# Altium footprint library Sangjian_Pcb.PcbLib: 434 footprints (part 24 of 28)
Each footprint in its own frame and in the unit in brackets; x right, y up, seen from the top. Pads: shape width x height; smd on the part's side, far side on the other; paste and mask are expansions set on the pad; w line width, h text height; cw(c..) or ccw(c..) is an arc to the next point about the centre after c.
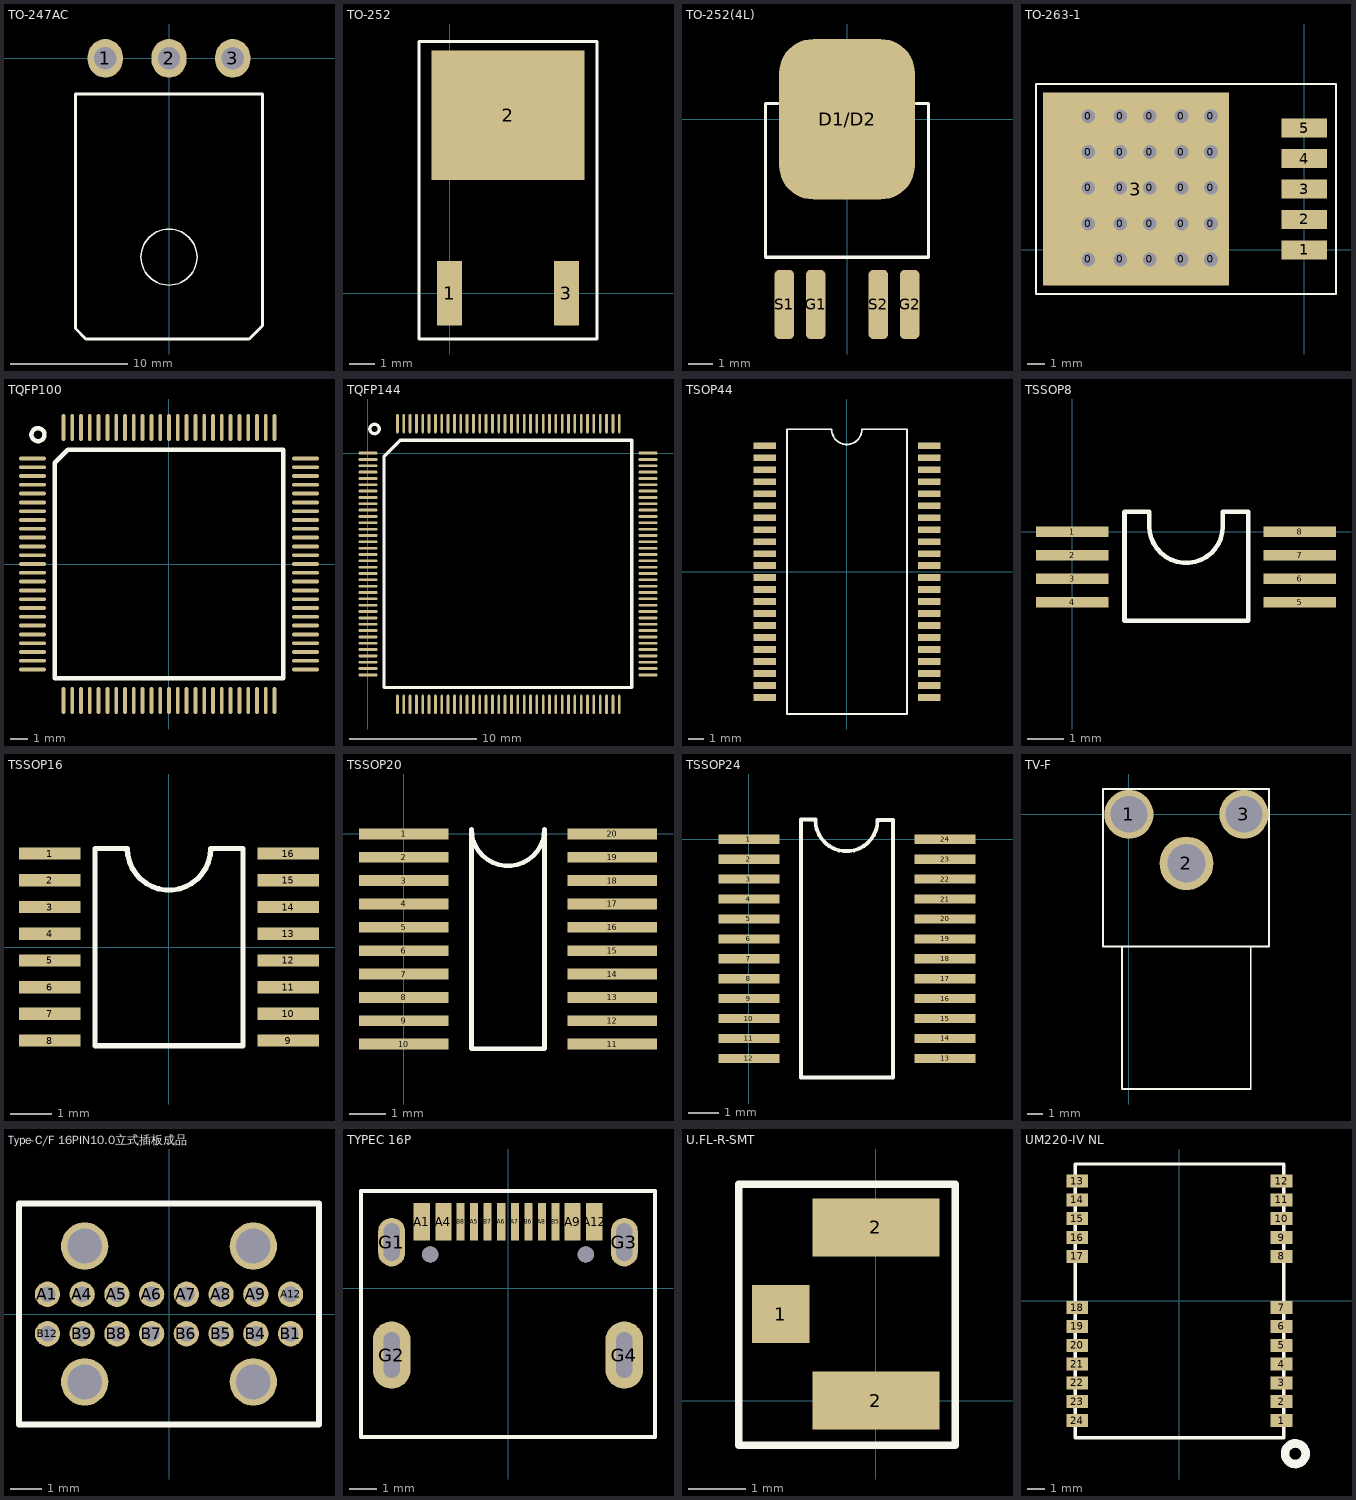
[diagram p23: the footprints below, top view; thin cyan lines are the x and y axes]

## TO-247AC [mm]
pads (3):
  oval 3x3.3 hole 1.9: 1(-5.45,0) 2(0,0) 3(5.45,0)
Top Overlay:
  circle w0.127: c0,-17 r2.396
  lines w0.254: 6.859,-24.002 8,-22.861 8,-13.716 ; 6.859,-24 -7.112,-24 -8,-23.112 -8,-16.002 -8,-3.048 8,-3.048 8,-13.843

## TO-252 [mm]
pads (3):
  rect 1x2.54 smd: 1(0,0) 3(4.6,0)
  rect 6x5.08 smd: 2(2.3,7)
Top Overlay:
  lines w0.127: -1.2,-1.8 -1.2,9.906 5.8,9.906 5.8,-1.8 -1.2,-1.8

## TO-252(4L) [mm]
pads (5):
  rrect50% 5.5x6.5 smd: D1/D2(0,0)
  rrect50% 0.8x2.8 smd: G1(-1.27,-7.5) G2(2.54,-7.5) S1(-2.54,-7.5) S2(1.27,-7.5)
Top Overlay:
  lines w0.127: -2.794,0.635 -3.3,0.635 -3.3,-5.588 3.3,-5.588 3.3,0.635 2.794,0.635

## TO-263-1 [mil]
pads (31):
  round 30 hole 30: 0(-475,-21.1) 0(-475,57.64) 0(-475,136.38) 0(-475,215.12) 0(-475,293.86) 0(-405,-21.1) 0(-405,57.64) 0(-405,136.38) 0(-405,215.12) 0(-405,293.86) 0(-340,-21.1) 0(-340,57.64) 0(-340,136.38) 0(-340,215.12) 0(-340,293.86) 0(-270,-21.1) 0(-270,57.64) 0(-270,136.38) 0(-270,215.12) 0(-270,293.86) 0(-205,-21.1) 0(-205,57.64) 0(-205,136.38) 0(-205,215.12) 0(-205,293.86)
  rect 100x42.13 smd: 1(0,0) 2(0,66.93) 3(0,133.86) 4(0,200.79) 5(0,267.72)
  rect 409.84x425.2 all layers, no hole: 3(-370,133.86)
Top Overlay:
  lines w5: -590,-97.14 -590,364.86 70,364.86 70,-97.14 -590,-97.14

## TQFP100 [mm]
pads (100):
  oct 1.524x0.22 smd: 1(-7.762,6) 2(-7.762,5.5) 3(-7.762,5) 4(-7.762,4.5) 5(-7.762,4) 6(-7.762,3.5) 7(-7.762,3) 8(-7.762,2.5) 9(-7.762,2) 10(-7.762,1.5) 11(-7.762,1) 12(-7.762,0.5) 13(-7.762,0) 14(-7.762,-0.5) 15(-7.762,-1) 16(-7.762,-1.5) 17(-7.762,-2) 18(-7.762,-2.5) 19(-7.762,-3) 20(-7.762,-3.5) 21(-7.762,-4) 22(-7.762,-4.5) 23(-7.762,-5) 24(-7.762,-5.5) 25(-7.762,-6) 52(7.762,-5.5) 53(7.762,-5) 54(7.762,-4.5) 55(7.762,-4) 56(7.762,-3.5) 57(7.762,-3) 58(7.762,-2.5) 59(7.762,-2) 60(7.762,-1.5) 61(7.762,-1) 62(7.762,-0.5) 63(7.762,0) 64(7.762,0.5) 65(7.762,1) 66(7.762,1.5) 67(7.762,2) 68(7.762,2.5) 69(7.762,3) 70(7.762,3.5) 71(7.762,4) 72(7.762,4.5) 73(7.762,5) 74(7.762,5.5) 75(7.762,6)
  oct 0.22x1.524 smd: 26(-6,-7.762) 27(-5.5,-7.762) 28(-5,-7.762) 29(-4.5,-7.762) 30(-4,-7.762) 31(-3.5,-7.762) 32(-3,-7.762) 33(-2.5,-7.762) 34(-2,-7.762) 35(-1.5,-7.762) 36(-1,-7.762) 37(-0.5,-7.762) 38(0,-7.762) 39(0.5,-7.762) 40(1,-7.762) 41(1.5,-7.762) 42(2,-7.762) 43(2.5,-7.762) 44(3,-7.762) 45(3.5,-7.762) 46(4,-7.762) 47(4.5,-7.762) 48(5,-7.762) 49(5.5,-7.762) 50(6,-7.762) 76(6,7.762) 77(5.5,7.762) 78(5,7.762) 79(4.5,7.762) 80(4,7.762) 81(3.5,7.762) 82(3,7.762) 83(2.5,7.762) 84(2,7.762) 85(1.5,7.762) 86(1,7.762) 87(0.5,7.762) 88(0,7.762) 89(-0.5,7.762) 90(-1,7.762) 91(-1.5,7.762) 92(-2,7.762) 93(-2.5,7.762) 94(-3,7.762) 95(-3.5,7.762) 96(-4,7.762) 97(-4.5,7.762) 98(-5,7.762) 99(-5.5,7.762) 100(-6,7.762)
  oct 1.524x0.22 smd mask+0.102: 51(7.762,-6)
Top Overlay:
  circle w0.254: c-7.445,7.35 r0.37
  lines w0.254: -5.75,6.492 6.492,6.492 6.492,-6.492 -6.492,-6.492 -6.492,5.746 -5.748,6.49

## TQFP144 [mm]
pads (144):
  oct 1.524x0.22 smd: 1(0,0) 2(0,-0.5) 3(0,-1) 4(0,-1.5) 5(0,-2) 6(0,-2.5) 7(0,-3) 8(0,-3.5) 9(0,-4) 10(0,-4.5) 11(0,-5) 12(0,-5.5) 13(0,-6) 14(0,-6.5) 15(0,-7) 16(0,-7.5) 17(0,-8) 18(0,-8.5) 19(0,-9) 20(0,-9.5) 21(0,-10) 22(0,-10.5) 23(0,-11) 24(0,-11.5) 25(0,-12) 26(0,-12.5) 27(0,-13) 28(0,-13.5) 29(0,-14) 30(0,-14.5) 31(0,-15) 32(0,-15.5) 33(0,-16) 34(0,-16.5) 35(0,-17) 36(0,-17.5) 73(22.098,-17.5) 74(22.098,-17) 75(22.098,-16.5) 76(22.098,-16) 77(22.098,-15.5) 78(22.098,-15) 79(22.098,-14.5) 80(22.098,-14) 81(22.098,-13.5) 82(22.098,-13) 83(22.098,-12.5) 84(22.098,-12) 85(22.098,-11.5) 86(22.098,-11) 87(22.098,-10.5) 88(22.098,-10) 89(22.098,-9.5) 90(22.098,-9) 91(22.098,-8.5) 92(22.098,-8) 93(22.098,-7.5) 94(22.098,-7) 95(22.098,-6.5) 96(22.098,-6) 97(22.098,-5.5) 98(22.098,-5) 99(22.098,-4.5) 100(22.098,-4) 101(22.098,-3.5) 102(22.098,-3) 103(22.098,-2.5) 104(22.098,-2) 105(22.098,-1.5) 106(22.098,-1) 107(22.098,-0.5) 108(22.098,0)
  oct 0.22x1.524 smd: 37(2.323,-19.823) 38(2.823,-19.823) 39(3.323,-19.823) 40(3.823,-19.823) 41(4.323,-19.823) 42(4.823,-19.823) 43(5.323,-19.823) 44(5.823,-19.823) 45(6.323,-19.823) 46(6.823,-19.823) 47(7.323,-19.823) 48(7.823,-19.823) 49(8.323,-19.823) 50(8.823,-19.823) 51(9.323,-19.823) 52(9.823,-19.823) 53(10.323,-19.823) 54(10.823,-19.823) 55(11.323,-19.823) 56(11.823,-19.823) 57(12.323,-19.823) 58(12.823,-19.823) 59(13.323,-19.823) 60(13.823,-19.823) 61(14.323,-19.823) 62(14.823,-19.823) 63(15.323,-19.823) 64(15.823,-19.823) 65(16.323,-19.823) 66(16.823,-19.823) 67(17.323,-19.823) 68(17.823,-19.823) 69(18.323,-19.823) 70(18.823,-19.823) 71(19.323,-19.823) 72(19.823,-19.823) 109(19.823,2.323) 110(19.323,2.323) 111(18.823,2.323) 112(18.323,2.323) 113(17.823,2.323) 114(17.323,2.323) 115(16.823,2.323) 116(16.323,2.323) 117(15.823,2.323) 118(15.323,2.323) 119(14.823,2.323) 120(14.323,2.323) 121(13.823,2.323) 122(13.323,2.323) 123(12.823,2.323) 124(12.323,2.323) 125(11.823,2.323) 126(11.323,2.323) 127(10.823,2.323) 128(10.323,2.323) 129(9.823,2.323) 130(9.323,2.323) 131(8.823,2.323) 132(8.323,2.323) 133(7.823,2.323) 134(7.323,2.323) 135(6.823,2.323) 136(6.323,2.323) 137(5.823,2.323) 138(5.323,2.323) 139(4.823,2.323) 140(4.323,2.323) 141(3.823,2.323) 142(3.323,2.323) 143(2.823,2.323) 144(2.323,2.323)
Top Overlay:
  circle w0.254: c0.519,1.905 r0.37
  lines w0.254: 1.27,-18.496 1.27,-17.663 1.27,-0.254 2.54,1.016 19.839,1.016 20.819,1.016 20.819,-17.86 20.819,-18.496 20.073,-18.496 1.27,-18.496

## TSOP44 [mm]
pads (44):
  rect 1.5x0.45 smd: 1(-5.5,8.4) 2(-5.5,7.6) 3(-5.5,6.8) 4(-5.5,6) 5(-5.5,5.2) 6(-5.5,4.4) 7(-5.5,3.6) 8(-5.5,2.8) 9(-5.5,2) 10(-5.5,1.2) 11(-5.5,0.4) 12(-5.5,-0.4) 13(-5.5,-1.2) 14(-5.5,-2) 15(-5.5,-2.8) 16(-5.5,-3.6) 17(-5.5,-4.4) 18(-5.5,-5.2) 19(-5.5,-6) 20(-5.5,-6.8) 21(-5.5,-7.6) 22(-5.5,-8.4) 23(5.5,-8.4) 24(5.5,-7.6) 25(5.5,-6.8) 26(5.5,-6) 27(5.5,-5.2) 28(5.5,-4.4) 29(5.5,-3.6) 30(5.5,-2.8) 31(5.5,-2) 32(5.5,-1.2) 33(5.5,-0.4) 34(5.5,0.4) 35(5.5,1.2) 36(5.5,2) 37(5.5,2.8) 38(5.5,3.6) 39(5.5,4.4) 40(5.5,5.2) 41(5.5,6) 42(5.5,6.8) 43(5.5,7.6) 44(5.5,8.4)
Top Overlay:
  lines w0.127: 3.968,9.5 1,9.5 cw(c-0.016,9.5) -1.032,9.5 -4,9.5 -4,-9.5 4,-9.5 4,9.5

## TSSOP8 [mm]
pads (8):
  rect 2x0.3 smd: 1(0,0) 2(0,-0.65) 3(0,-1.3) 4(0,-1.95) 5(6.299,-1.95) 6(6.299,-1.3) 7(6.299,-0.65) 8(6.299,0)
Top Overlay:
  lines w0.127: 1.448,-2.464 1.448,0.559 2.138,0.559 2.138,0.152 ccw(c3.154,0.152) 4.17,0.152 4.17,0.559 4.877,0.559 4.877,-2.464 1.448,-2.464

## TSSOP16 [mm]
pads (16):
  rect 1.5x0.3 smd: 1(-2.9,2.275) 2(-2.9,1.625) 3(-2.9,0.975) 4(-2.9,0.325) 5(-2.9,-0.325) 6(-2.9,-0.975) 7(-2.9,-1.625) 8(-2.9,-2.275) 9(2.9,-2.275) 10(2.9,-1.625) 11(2.9,-0.975) 12(2.9,-0.325) 13(2.9,0.325) 14(2.9,0.975) 15(2.9,1.625) 16(2.9,2.275)
Top Overlay:
  lines w0.127: -1.8,-2.402 1.8,-2.402 1.8,2.402 1.016,2.402 cw(c0,2.402) -1.016,2.402 -1.8,2.402 -1.8,-2.402

## TSSOP20 [mm]
pads (20):
  rect 2.5x0.3 smd: 1(0,0) 2(0,-0.65) 3(0,-1.3) 4(0,-1.95) 5(0,-2.6) 6(0,-3.25) 7(0,-3.9) 8(0,-4.55) 9(0,-5.2) 10(0,-5.85) 11(5.8,-5.85) 12(5.8,-5.2) 13(5.8,-4.55) 14(5.8,-3.9) 15(5.8,-3.25) 16(5.8,-2.6) 17(5.8,-1.95) 18(5.8,-1.3) 19(5.8,-0.65) 20(5.8,0)
Top Overlay:
  lines w0.127: 1.884,-5.977 3.916,-5.977 3.916,0.127 cw(c2.9,0.127) 1.884,0.127 1.884,-5.977

## TSSOP24 [mm]
pads (24):
  rect 2x0.3 smd: 1(0,0) 2(0,-0.65) 3(0,-1.3) 4(0,-1.95) 5(0,-2.6) 6(0,-3.25) 7(0,-3.9) 8(0,-4.55) 9(0,-5.2) 10(0,-5.85) 11(0,-6.5) 12(0,-7.15) 13(6.4,-7.15) 14(6.4,-6.5) 15(6.4,-5.85) 16(6.4,-5.2) 17(6.4,-4.55) 18(6.4,-3.9) 19(6.4,-3.25) 20(6.4,-2.6) 21(6.4,-1.95) 22(6.4,-1.3) 23(6.4,-0.65) 24(6.4,0)
Top Overlay:
  lines w0.127: 2.168,0.625 ccw(c3.184,0.625) 4.2,0.625 ; 2.168,0.65 1.7,0.65 1.7,-7.775 4.7,-7.775 4.7,0.625 4.232,0.625

## TV-F [mm]
pads (3):
  round 3.2 hole 2.4: 1(0,0) 3(7.5,0)
  round 3.5 hole 2.5: 2(3.75,-3.2)
Top Overlay:
  lines w0.127: -1.626,-8.611 9.119,-8.611 9.119,-8.433 9.119,-8.5 9.119,1.448 9.119,1.397 9.119,1.651 -1.549,1.651 -1.422,1.651 -1.676,1.651 -1.676,-8.5 -1.676,-8.611 -1.473,-8.611 ; -0.457,-8.611 -0.457,-17.911 7.943,-17.911 7.943,-8.654 7.899,-8.611

## Type-C/F 16PIN10.0立式插板成品 [mm]
pads (20):
  round 0.8 hole 0.5: A1(-3.85,0.625) A4(-2.75,0.625) A5(-1.65,0.625) A6(-0.55,0.625) A7(0.55,0.625) A8(1.65,0.625) A9(2.75,0.625) A12(3.85,0.625) B1(3.85,-0.625) B4(2.75,-0.625) B5(1.65,-0.625) B6(0.55,-0.625) B7(-0.55,-0.625) B8(-1.65,-0.625) B9(-2.75,-0.625) B12(-3.85,-0.625)
  round 1.5 hole 1.1: ""(-2.67,-2.15) ""(-2.67,2.15) ""(2.67,-2.15) ""(2.67,2.15)
Top Overlay:
  lines w0.2: -4.75,-3.5 -4.75,3.5 4.75,3.5 4.75,-3.5 -4.75,-3.5

## TYPEC 16P [mm]
pads (18):
  rect 0.6x1.4 smd mask+0.07: A1(-3.2,2.476) A4(-2.4,2.476) A9(2.4,2.476) A12(3.2,2.476)
  rect 0.3x1.4 smd mask+0.07: A5(-1.258,2.476) A6(-0.25,2.476) A7(0.254,2.476) A8(1.262,2.476) B5(1.766,2.476) B6(0.758,2.476) B7(-0.754,2.476) B8(-1.762,2.476)
  oval 1x1.8 hole 1.4 slot 0.6 at 0 deg mask+0.07: G1(-4.32,1.714) G3(4.32,1.714)
  oval 1.4x2.5 hole 1.7 slot 0.6 at 0 deg mask+0.07: G2(-4.32,-2.476) G4(4.32,-2.476)
  round 0.6 hole 0.6 mask+0: ""(-2.89,1.259) ""(2.89,1.259)
Top Overlay:
  lines w0.152: -5.461,-5.524 -5.461,3.619 5.461,3.619 5.461,-5.524 -5.461,-5.524
Mechanical 13:
  lines w0.152: -5.461,-5.524 5.461,-5.524 5.461,3.619 -5.461,3.619 -5.461,-5.524
3D body "USB3.0 TYPEC SMD&DIP.step": height 3.15, standoff -1.3, extent -4.865,-5.842 4.865,4.043

## U.FL-R-SMT [mm]
pads (3):
  rect 1x1 smd: 1(-1.65,1.5)
  rect 2.2x1 smd: 2(0,0) 2(0,3)
Top Overlay:
  lines w0.127: -2.375,-0.775 1.375,-0.775 1.375,3.75 -2.375,3.75 -2.375,-0.775

## UM220-IV NL [mm]
pads (24):
  rect 1.27x0.76 smd: 1(5.975,-7) 2(5.975,-5.9) 3(5.975,-4.8) 4(5.975,-3.7) 5(5.975,-2.6) 6(5.975,-1.5) 7(5.975,-0.4) 8(5.975,2.6) 9(5.975,3.7) 10(5.975,4.8) 11(5.975,5.9) 12(5.975,7) 13(-5.975,7) 14(-5.975,5.9) 15(-5.975,4.8) 16(-5.975,3.7) 17(-5.975,2.6) 18(-5.975,-0.4) 19(-5.975,-1.5) 20(-5.975,-2.6) 21(-5.975,-3.7) 22(-5.975,-4.8) 23(-5.975,-5.9) 24(-5.975,-7)
Top Overlay:
  circle w0.5: c6.778,-8.94 r0.602
  lines w0.2: -6.1,-8 -6.1,8 6.1,8 6.1,-8 -6.1,-8